# EAGLE library part MLX90393 (library ICs)
Hall Effect Sensor X, Y, Z Axis 16-QFN (3x3)
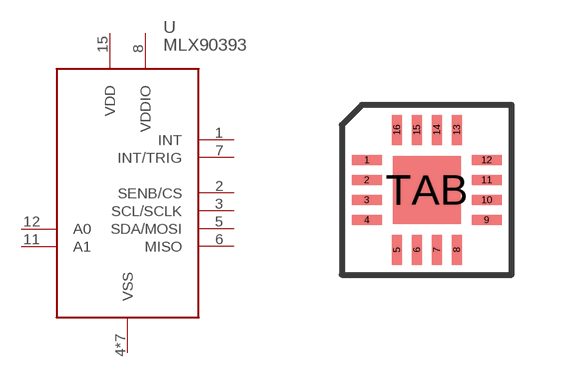
[diagram p193: symbol with the pads of QFN16; footprint QFN16]

Designator prefix U

## MLX90393 (DIGIKEY: MLX90393SLW-ABA-011-RECT-ND; HEIGHT: 1; PRICE_PER: 1.67; VALUE: MLX90393)  [QFN16]
1  INT
2  SENB/CS
3  SCL/SCLK
4  VSS
5  SDA/MOSI
6  MISO
7  INT/TRIG
8  VDDIO
9  VSS
10  VSS
11  A1
12  A0
13  VSS
14  VSS
15  VDD
16  VSS
TAB  VSS

## Footprint QFN16 (pad centres in mm)
smd 0.75 x 0.25: 1 -1.5,0.75; 2 -1.5,0.25; 3 -1.5,-0.25; 4 -1.5,-0.75; 9 1.5,-0.75; 10 1.5,-0.25; 11 1.5,0.25; 12 1.5,0.75
smd 0.25 x 0.75: 5 -0.75,-1.5; 6 -0.25,-1.5; 7 0.25,-1.5; 8 0.75,-1.5; 13 0.75,1.5; 14 0.25,1.5; 15 -0.25,1.5; 16 -0.75,1.5
smd 1.7 x 1.7: TAB 0,0